# EAGLE library part ICL7665 (library icl7665)
Maxim Integrated: Microprocessor Voltage Monitor with Dual Over/Undervoltage Detection Datasheets ICL7665 <http://datasheets.maximintegrated.com/en/ds/ICL7665.pdf> Product Photos 8-SOIC <http://media.digikey.com/Renders/Maxim%20Renders/8-SOIC.jpg> Product Training Modules Lead (SnPb) Finish for COTS <http://www.digikey.com/PTM/IndividualPTM.page?site=us&lang=en&ptm=25703&WT.pn_sku=ICL7665CSA+-ND&WT.z_part_id=1303145&WT.z_ptm_source=Part_Detail> Long-Term Supply Program <http://www.digikey.com/PTM/IndividualPTM.page?site=us&lang=en&ptm=25705&WT.pn_sku=ICL7665CSA+-ND&WT.z_part_id=1303145&WT.z_ptm_source=Part_Detail> Standard Package <javascript:dlgHelp('Standard%20Packaging%20Help');> 100 Category Integrated Circuits (ICs) </product-search/en/integrated-circuits-ics> Family PMIC - Supervisors </product-search/en/integrated-circuits-ics/pmic-supervisors/2556197> Series - Packaging <javascript:dlgHelp('Standard%20Packaging%20Help');> Tube <javascript:dlgHelp('Tube%20Help');> Type Multi-Voltage Supervisor Number of Voltages Monitored 2 Output Open Drain or Open Collector Reset Active High Reset Timeout <1 ms Minimum Voltage - Threshold Adjustable/Selectable Operating Temperature 0°C ~ 70°C Mounting Type Surface Mount Package / Case 8-SOIC (0.154", 3.90mm Width) Supplier Device Package 8-SOIC N Online Catalog Multi-Voltage Supervisor </catalog/en/partgroup/multi-voltage-supervisor/17883?mpart=ICL7665CSA%2B&vendor=175&WT.z_ref_page_type=PS&WT.z_ref_page_sub_type=PD&WT.z_ref_page_id=PD&WT.z_ref_page_event=DC_Link_Table>
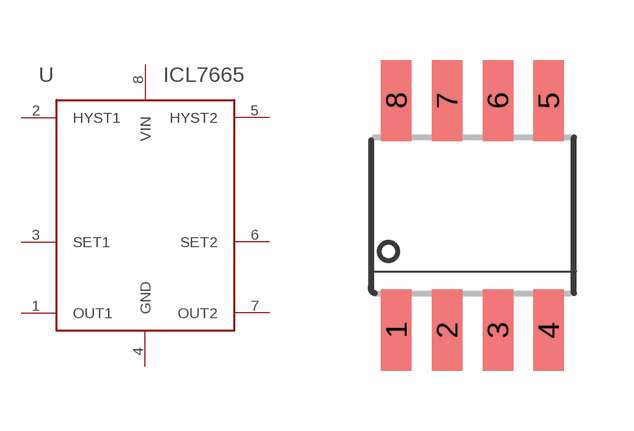
[diagram p0: symbol with the pads of SOIC-8; footprint SOIC-8]

Designator prefix U

## ICL7665  [SOIC-8]
1  OUT1
2  HYST1
3  SET1
4  GND
5  HYST2
6  SET2
7  OUT2
8  VIN

## Footprint SOIC-8 (pad centres in mm)
smd 0.762 x 2.032: 1 -1.905,-2.873; 2 -0.635,-2.873; 3 0.635,-2.873; 4 1.905,-2.873; 5 1.905,2.873; 6 0.635,2.873; 7 -0.635,2.873; 8 -1.905,2.873